# Altium schematic symbol library Schlib1.SchLib: 10 symbols
Pins are listed as number, name and electrical type; pins without a type are passive.

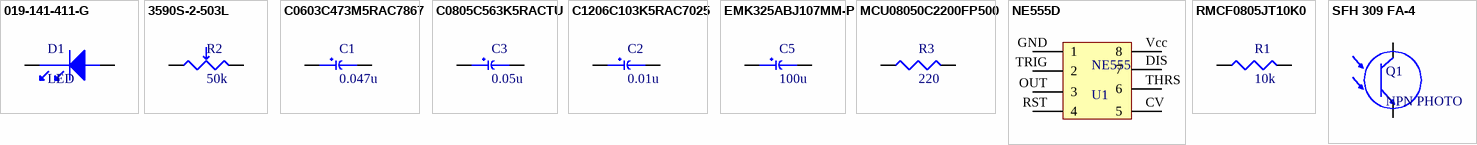
[diagram p0: symbols 019-141-411-G to SFH 309 FA-4]

## 019-141-411-G
designator D1, comment LED
Photodiode Green Micro SMT; Manufacturer: Advanced Photonix; Manufacturer Part Number: 019-141-411-G; Stock 1: 3018; Pricing 1: 1=1,97000, 10=1,31700, 100=1,01310, 500=0,91584, 1000=0,81000 (USD); Supplier 1: Digi-Key; Supplier Part Number 1: 475-3023-ND
pins: 1, 2

## 3590S-2-503L
designator R2, comment 50k
WIREWOUND POTENTIOMETER 2W; Manufacturer: Bourns; Manufacturer Part Number: 3590S-2-503L; Number of Turns: 10; Tolerance: 5%; Resistance: 50kR; Number of Gangs: 1; Temperature Coefficient: 50ppm/°C; Linearity: 0.25%; Voltage Rating (DC): 500V; Actuator Length: 0.812inch; Actuator Diameter: 0.2497inch; Hole Diameter: 9.525mm; Supplier 1: Digi-Key; RoHS: Yes; Category: Variable Resistors and Potentiometers; Pricing 1: 1=18,54000, 10=17,11200, 25=16,39920, 50=14,26000, 100=12,83400, 250=11,05152, 500=10,69500, 1000=9,98200 (USD); Mount: Panel; Weight: 19g; Min Operating Temperature: -40°C; Max Operating Temperature: 125°C; Package Quantity: 5; Resistor Type: Wirewound; Packaging: Bulk; Power Rating: 2W; Taper: Linear; Termination: Solder; Max Power Dissipation: 2W; Type: Potentiometer; Series: 3590; Resistance Tolerance: 5%; Diameter: 22.23mm; Length: 39.22mm; Height: 26.66mm; Depth: 22.23mm; Radiation Hardening: No; REACH SVHC: No SVHC; Military Standard: Not; Lead Free: Lead Free; RoHS Compliant: Yes; ComponentLink1URL: https://datasheet.ciiva.com/11830/0900766b800a913f-11830740.pdf?src-supplier=RSComponents; ComponentLink1Description: https://datasheet.ciiva.com/11830/0900766b800a913f-11830740.pdf?src-supplier=RSComponents; ComponentLink2URL: https://datasheet.ciiva.com/26913/3590s-2-503l-26913772.pdf?src-supplier=IIIC; ComponentLink2Description: https://datasheet.ciiva.com/26913/3590s-2-503l-26913772.pdf?src-supplier=IIIC; ComponentLink3URL: https://datasheet.ciiva.com/1475/1695332-1475904.pdf?src-supplier=Element14; ComponentLink3Description: https://datasheet.ciiva.com/1475/1695332-1475904.pdf?src-supplier=Element14; ComponentLink4URL: https://datasheet.ciiva.com/2152/3590-2152897.pdf?src-supplier=Digi-Key; ComponentLink4Description: https://datasheet.ciiva.com/2152/3590-2152897.pdf?src-supplier=Digi-Key; Supplier Part Number 1: 3590S-2-503L-ND
pins: 1, 2

## C0603C473M5RAC7867
designator C1, comment 0.047u
CAP CER 0.047UF 50V X7R 0603; Manufacturer: KEMET; Manufacturer Part Number: C0603C473M5RAC7867; Dielectric Material: Ceramic; Capacitance: 47nF; Tolerance: 20%; Supplier 1: Digi-Key; RoHS: Yes; Category: Ceramic Capacitors; Stock 1: 31668; Pricing 1: 1=0,13000, 10=0,09400, 50=0,05100, 100=0,04170, 500=0,02978, 1000=0,02340 (USD); Mount: Surface Mount; Case/Package: 0603; Min Operating Temperature: -55°C; Max Operating Temperature: 125°C; Dielectric: X7R; Voltage Rating (DC): 50V; Length: 1.6mm; Height: 0.8mm; Depth: 0.8mm; Radiation Hardening: No; ComponentLink1URL: http://capacitoredge.kemet.com/capedge2/DataSheet?pn=C0603C473M5RACTU&src-supplier=Avnet+Europe; ComponentLink1Description: http://capacitoredge.kemet.com/capedge2/DataSheet?pn=C0603C473M5RACTU&src-supplier=Avnet+Europe; ComponentLink2URL: http://capacitoredge.kemet.com/capedge2/DataSheet?pn=C0603C473M5RACTU&src-supplier=Avnet; ComponentLink2Description: http://capacitoredge.kemet.com/capedge2/DataSheet?pn=C0603C473M5RACTU&src-supplier=Avnet; ComponentLink3URL: https://api.kemet.com/component-edge/download/datasheet/C0603C473M5RAC7867.pdf?src-supplier=Digi-Key; ComponentLink3Description: https://api.kemet.com/component-edge/download/datasheet/C0603C473M5RAC7867.pdf?src-supplier=Digi-Key; Supplier Part Number 1: 399-14294-1-ND
pins: 1, 2

## C0805C563K5RACTU
designator C3, comment 0.05u
CAP, MLCC, X7R, 0.056UF, 50V, 0805; Product Range:C Series; Capacitance:0.056 F; Capacitance Tolerance: 10%; Dielectric Characteristic:X7R; Voltage Rating:50V; Ceramic Capacitor Case:0805 [2012 Metric]; Operating Temperature ;RoHS Compliant: Yes; Manufacturer: KEMET; Manufacturer Part Number: C0805C563K5RACTU; Capacitance: 56nF; Dissipation Factor: 2.5%; Supplier 1: Digi-Key; RoHS: Yes; Category: Ceramic Capacitors; Stock 1: 4793; Pricing 1: 1=0,19000, 10=0,13300, 50=0,07540, 100=0,06250, 500=0,04384, 1000=0,03630 (USD); Mount: Surface Mount; Case/Package: 0805; Case Code (Metric): 2012; Case Code (Imperial): 0805; Dielectric Material: Ceramic; Min Operating Temperature: -55°C; Max Operating Temperature: 125°C; Package Quantity: 1; Voltage Rating: 50V; Tolerance: 10%; Packaging: Tape and Reel; Voltage Rating (DC): 50V; Dielectric: X7R; Termination: SMD/SMT; Series: C; Construction: Flat; Length: 2mm; Width: 0.049inch; Height: 0.9mm; Thickness: 0.039inch; Lead Pitch: 0.75mm; Depth: 1.25mm; Radiation Hardening: No; REACH SVHC: No SVHC; RoHS Compliant: Yes; ComponentLink1URL: https://datasheet.ciiva.com/16624/datasheetpn-c0805c563k5ractu-16624922.pdf?src-supplier=Avnet+Europe; ComponentLink1Description: https://datasheet.ciiva.com/16624/datasheetpn-c0805c563k5ractu-16624922.pdf?src-supplier=Avnet+Europe; ComponentLink2URL: https://datasheet.ciiva.com/18193/getdatasheetpartid-356791-18193948.pdf?src-supplier=Verical; ComponentLink2Description: https://datasheet.ciiva.com/18193/getdatasheetpartid-356791-18193948.pdf?src-supplier=Verical; Supplier Part Number 1: 399-8107-1-ND
pins: 1, 2

## C1206C103K5RAC7025
designator C2, comment 0.01u
Cap Ceramic 0.01uF 50V X7R 10% SMD 1206 125°C Plastic T/R; Manufacturer: KEMET; Manufacturer Part Number: C1206C103K5RAC7025; Capacitance: 10nF; Supplier 1: Digi-Key; RoHS: Yes; Category: Ceramic Capacitors; Stock 1: 5280; Pricing 1: 1=0,21000, 10=0,14500, 50=0,08700, 100=0,07340, 500=0,05024, 1000=0,04444 (USD); Mount: Surface Mount; Case/Package: 1206; Dielectric Material: Ceramic; Min Operating Temperature: -55°C; Max Operating Temperature: 125°C; Tolerance: 10%; Dielectric: X7R; Voltage Rating (DC): 50V; Construction: Flat; Length: 3.2mm; Height: 0.78mm; Depth: 1.6mm; Radiation Hardening: No; RoHS Compliant: Yes; ComponentLink1URL: https://www.distrelec.biz/Web/Downloads/_t/ds/KEM_C1002_X7R_SMD_eng_tds.pdf?mime=application%2Fpdf&src-supplier=Distrelec; ComponentLink1Description: https://www.distrelec.biz/Web/Downloads/_t/ds/KEM_C1002_X7R_SMD_eng_tds.pdf?mime=application%2Fpdf&src-supplier=Distrelec; ComponentLink2URL: https://api.kemet.com/component-edge/download/datasheet/C1206C103K5RAC7025.pdf?src-supplier=Digi-Key; ComponentLink2Description: https://api.kemet.com/component-edge/download/datasheet/C1206C103K5RAC7025.pdf?src-supplier=Digi-Key; ComponentLink3URL: http://capacitoredge.kemet.com/capedge2/DataSheet?pn=C1206C103K5RAC7025&src-supplier=Avnet+Europe; ComponentLink3Description: http://capacitoredge.kemet.com/capedge2/DataSheet?pn=C1206C103K5RAC7025&src-supplier=Avnet+Europe; Supplier Part Number 1: 399-17657-1-ND
pins: 1, 2

## EMK325ABJ107MM-P
designator С5, comment 100u
1210 100 uF 16 V ±20% Tolerance X5R Multilayer Ceramic Capacitor; Manufacturer: Taiyo Yuden; Manufacturer Part Number: EMK325ABJ107MM-P; Capacitance: 100uF; Voltage Rating: 16V; Supplier 1: Digi-Key; RoHS: Yes; Category: Ceramic Capacitors; Stock 1: 316; Pricing 1: 1=1,87000, 10=1,47500, 50=1,27820, 100=1,10620, 500=0,83576 (USD); Mount: Surface Mount; Case/Package: 1210; Case Code (Imperial): 1210; Case Code (Metric): 3225; Min Operating Temperature: -55°C; Max Operating Temperature: 85°C; Packaging: Tape and Reel; Tolerance: 20%; Lead Free: Lead Free; RoHS Compliant: Yes; ComponentLink1URL: http://ds.yuden.co.jp/TYCOMPAS/ut/detail.do?productNo=EMK325ABJ107MM-P&fileName=EMK325ABJ107MM-P_SS&mode=specSheetDownload&src-supplier=Digi-Key; ComponentLink1Description: http://ds.yuden.co.jp/TYCOMPAS/ut/detail.do?productNo=EMK325ABJ107MM-P&fileName=EMK325ABJ107MM-P_SS&mode=specSheetDownload&src-supplier=Digi-Key; Supplier Part Number 1: 587-5426-1-ND
pins: 1, 2

## MCU08050C2200FP500
designator R3, comment 220
Res Thin Film 0805 220 Ohm 1% 1/8W 50ppm/C Molded SMD SMD Paper T/R; Manufacturer: Vishay BCcomponents; Manufacturer Part Number: MCU08050C2200FP500; Resistance: 220R; Max Power Dissipation: 200mW; Temperature Coefficient: 50ppm/°C; Supplier 1: Digi-Key; RoHS: Yes; Category: Chip SMD Resistors; Stock 1: 8212; Pricing 1: 1=0,38000, 10=0,32400, 100=0,12680, 1000=0,05310, 2500=0,04868 (USD); Case/Package: 0805; Contact Plating: Tin; Min Operating Temperature: -55°C; Max Operating Temperature: 125°C; Package Quantity: 5000; Packaging: Tape and Reel; Tolerance: 1%; Resistor Type: Thin Film; Number of Terminations: 2; Series: MCU 0805 - Professional; Construction: Rectangular; Length: 0.079inch; Width: 0.049inch; Height: 0.022inch; Depth: 1.25mm; Radiation Hardening: No; Military Standard: Not; Lead Free: Lead Free; RoHS Compliant: Yes; ComponentLink1URL: https://datasheet.ciiva.com/2587/mc-pro-2587218.pdf?src-supplier=Digi-Key; ComponentLink1Description: https://datasheet.ciiva.com/2587/mc-pro-2587218.pdf?src-supplier=Digi-Key; ComponentLink2URL: https://datasheet.ciiva.com/17166/mc-pro-17166441.pdf?src-supplier=Avnet+Europe; ComponentLink2Description: https://datasheet.ciiva.com/17166/mc-pro-17166441.pdf?src-supplier=Avnet+Europe; Supplier Part Number 1: 749-1727-1-ND
pins: 1, 2

## NE555D
designator NE555, comment U1
Standard Timer Single 8-Pin SOIC Tube; Manufacturer: Texas Instruments; Manufacturer Part Number: NE555D; Nominal Supply Current: 2mA; Frequency: 500kHz; Number of Timers/Counters: 1; Quiescent Current: 15mA; Low Level Output Current: -200mA; High Level Output Current: 200mA; Current Rating: 10A; Max Supply Voltage: 16V; Min Supply Voltage: 4.5V; Supplier 1: Digi-Key; RoHS: Yes; Category: Timers and Oscillators; Stock 1: 5313; Pricing 1: 1=0,47000, 10=0,37900, 25=0,34640, 100=0,25780, 250=0,23364, 500=0,19334, 1000=0,14501, 2500=0,13292, 5000=0,12692 (USD); Mount: Surface Mount; Case/Package: SOIC; Number of Pins: 8; Weight: 0.002561oz; Contact Plating: Gold; Min Operating Temperature: 0°C; Max Operating Temperature: 70°C; Packaging: Rail/Tube; Package Quantity: 75; Operating Supply Current: 2mA; Number of Channels: 1; Series: NE555; Length: 4.9mm; Width: 3.91mm; Height: 1.58mm; Radiation Hardening: No; REACH SVHC: No SVHC; Lead Free: Lead Free; RoHS Compliant: Yes; ComponentLink1URL: https://datasheet.ciiva.com/14094/ne555-series-eng-tds-14094949.pdf?src-supplier=Distrelec; ComponentLink1Description: https://datasheet.ciiva.com/14094/ne555-series-eng-tds-14094949.pdf?src-supplier=Distrelec; ComponentLink2URL: https://datasheet.ciiva.com/14188/ne555-14188230.pdf?src-supplier=Avnet; ComponentLink2Description: https://datasheet.ciiva.com/14188/ne555-14188230.pdf?src-supplier=Avnet; ComponentLink3URL: https://datasheet.ciiva.com/1233/ne555-1233451.pdf?src-supplier=Digi-Key; ComponentLink3Description: https://datasheet.ciiva.com/1233/ne555-1233451.pdf?src-supplier=Digi-Key; ComponentLink4URL: https://datasheet.ciiva.com/29305/152172-da-01-en-ne555d-timer-tis-29305205.pdf?src-supplier=Conrad; ComponentLink4Description: https://datasheet.ciiva.com/29305/152172-da-01-en-ne555d-timer-tis-29305205.pdf?src-supplier=Conrad; Supplier Part Number 1: 296-16792-ND
pins: CV 5, DIS 7, GND 1, OUT 3, RST 4, THRS 6, TRIG 2, Vcc 8

## RMCF0805JT10K0
designator R1, comment 10k
RES 10K OHM 5% 1/8W 0805; Manufacturer: Stackpole Electronics; Manufacturer Part Number: RMCF0805JT10K0; Resistance: 10kR; Power Rating: 125mW; Temperature Coefficient: 100ppm/°C; Supplier 1: Digi-Key; RoHS: Yes; Category: Chip SMD Resistors; Stock 1: 1163056; Pricing 1: 1=0,10000, 10=0,02000, 100=0,00810, 1000=0,00366, 2500=0,00318 (USD); Mount: Surface Mount; Case/Package: 0805; Case Code (Metric): 2012; Case Code (Imperial): 0805; Contact Plating: Tin,Matte; Size Code: 0805; Min Operating Temperature: -55°C; Max Operating Temperature: 155°C; Packaging: Tape and Reel; Tolerance: 5%; Resistor Type: Thick Film; Number of Terminations: 2; Max Power Dissipation: 125mW; Features: Automotive AEC-Q200; Series: RMCF; Construction: Rectangular; Length: 2mm; Width: 0.049inch; Height: 0.026inch; Depth: 1.25mm; Radiation Hardening: No; Military Standard: Not; Lead Free: Lead Free; RoHS Compliant: Yes; ComponentLink1URL: https://datasheet.ciiva.com/15193/getdatasheetpartid-363745-15193627.pdf?src-supplier=Verical; ComponentLink1Description: https://datasheet.ciiva.com/15193/getdatasheetpartid-363745-15193627.pdf?src-supplier=Verical; Supplier Part Number 1: RMCF0805JT10K0CT-ND
pins: 1, 2

## SFH 309 FA-4
designator Q1, comment NPN PHOTO
PHOTOTRANSISTOR, NPN, 900NM, T-1; Wavelength Typ:900nm; Power Consumption:165mW; Viewing Angle:24 ; No. of Pins:2Pins; Packaging:Each; MSL:-; Transistor Polarity:NPN ;RoHS Compliant: Yes; Manufacturer: Osram; Manufacturer Part Number: SFH 309 FA-4; Package Material: SILICON; Rise Time: 7us; Power Consumption: 165mW; Viewing Angle: 24°; Max Collector Current: 15mA; Collector Emitter Voltage (VCEO): 35V; Collector Emitter Saturation Voltage: 200mV; Number of Elements: 1; Lens Style: Domed; Dark Current: 200nA; Supplier 1: Digi-Key; RoHS: Yes; Category: LEDs; Stock 1: 6243; Pricing 1: 1=0,64000, 10=0,42000, 100=0,27780, 1000=0,21450, 2000=0,19382, 5000=0,18285 (USD); Mount: Through Hole; Case/Package: T; Number of Pins: 2; Contact Plating: Tin,Matte; Min Operating Temperature: -40°C; Max Operating Temperature: 100°C; Packaging: Bulk; Wavelength: 900nm; Max Power Dissipation: 165mW; Package Quantity: 2000; Collector Emitter Breakdown Voltage: 35V; Fall Time: 7us; Max Breakdown Voltage: 35V; Polarity: NPN; Power Dissipation: 165mW; Orientation: Top View; Series: -; Collector-emitter Voltage-Max: 35V; Number of Channels: 1; Diameter: 3.1mm; Height: 5.2mm; Radiation Hardening: No; REACH SVHC: No SVHC; Lead Free: Lead Free; RoHS Compliant: Yes; ComponentLink1URL: https://datasheet.ciiva.com/1249/39997-1249574.pdf?src-supplier=Element14; ComponentLink1Description: https://datasheet.ciiva.com/1249/39997-1249574.pdf?src-supplier=Element14; ComponentLink2URL: https://datasheet.ciiva.com/26883/getdatasheetpartid-753135-26883180.pdf?src-supplier=Verical; ComponentLink2Description: https://datasheet.ciiva.com/26883/getdatasheetpartid-753135-26883180.pdf?src-supplier=Verical; Supplier Part Number 1: 475-3557-ND
pins: 1, 2